# Altium schematic symbol library MCP1253.SchLib: 1 symbol
Pins are listed as number, name and electrical type; pins without a type are passive.

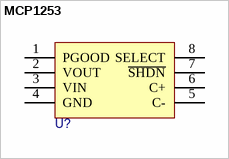
[diagram p0: symbol MCP1253]

## MCP1253
designator U?  (value not drawn)
pins: 1 PGOOD, 2 VOUT, 3 VIN, 4 GND, 5 C-, 6 C+, 7 ~{SHDN}, 8 SELECT